# EAGLE library part IRF7389 (library transistor-fet)
Complimentary Half Bridge HEXFET Power MOSFET Source: http://www.irf.com/product-info/datasheets/data/irf7389.pdf
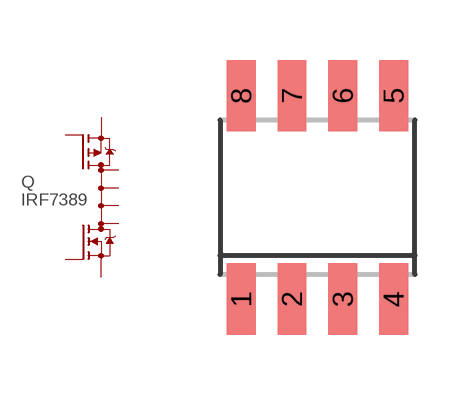
[diagram p7: symbol with the pads of SO08-IRF; footprint SO08-IRF]

Designator prefix Q

## IRF7389  [SO08-IRF]
1  N-S  pas
2  N-G  pas
3  P-S  pas
4  P-G  pas
5  D  pas
6  D  pas
7  D  pas
8  D  pas

## Footprint SO08-IRF (pad centres in mm)
SO8 Source: http://www.irf.com/product-info/datasheets/data/irf7389.pdf
smd 0.72 x 1.78: 1 -1.905,-2.543; 2 -0.635,-2.543; 3 0.635,-2.543; 4 1.905,-2.543; 5 1.905,2.543; 6 0.635,2.543; 7 -0.635,2.543; 8 -1.905,2.543